# Altium schematic symbol library Vishay Draloric Ceramic Disc Capacitor.SchLib: 519 symbols (part 1 of 8)
Pins are listed as number, name and electrical type; pins without a type are passive.

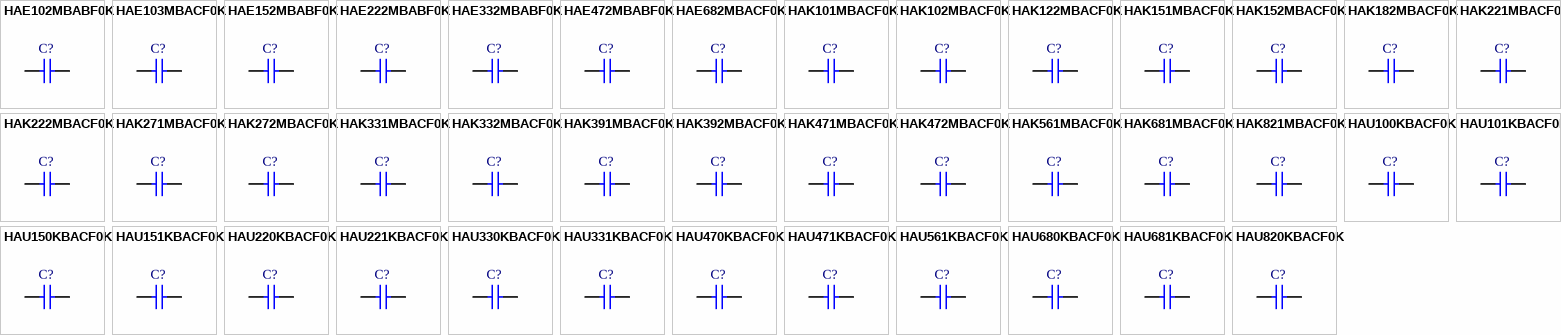
[diagram p0: symbols HAE102MBABF0K to HAU820KBACF0K]

## HAE102MBABF0K
designator C?
Ceramic High Voltage Disc Capacitor, Class 2: 1000pF 1kV K 6000; Note: See Datasheet for other lead types; Value: 1nF; Published: 17-Dec-2003; DatasheetDocument: 11-Dec-2001; PackageDocument: 2-Aug-2001; PackageReference: CAPRD5-7X3; Publisher: Altium Limited; ComponentLink1Description: Manufacturer Link; ComponentLink1URL: http://www.vishay.com/; ComponentLink2Description: Datasheet; ComponentLink2URL: http://www.vishay.com/docs/22161/h.pdf
footprint CAPRD5-7X3 (Capacitor, Ceramic, Thru-Hole, Disc; Body 7 x 3 mm (LxW max) Pin Spacing 5 mm (typ))
simulation model CAP (Capacitor)
signal-integrity model Cap
pins: 1, 2

## HAE103MBACF0K
designator C?
Ceramic High Voltage Disc Capacitor, Class 2: 10nF 1kV K 6000; Note: See Datasheet for other lead types; Published: 17-Dec-2003; DatasheetDocument: 11-Dec-2001; PackageDocument: 2-Aug-2001; PackageReference: CAPRD7.5-15X3A; Publisher: Altium Limited; ComponentLink1Description: Manufacturer Link; ComponentLink1URL: http://www.vishay.com/; ComponentLink2Description: Datasheet; ComponentLink2URL: http://www.vishay.com/docs/22161/h.pdf; Value: 10nF
footprint CAPRD7.5-15X3A (Capacitor, Ceramic, Thru-Hole, Disc; Body 15 x 3 mm (LxW max) Pin Spacing 7.5 mm (typ))
simulation model CAP (Capacitor)
signal-integrity model Cap
pins: 1, 2

## HAE152MBABF0K
designator C?
Ceramic High Voltage Disc Capacitor, Class 2: 1500pF 1kV K 6000; Note: See Datasheet for other lead types; Value: 1.5nF; Published: 17-Dec-2003; DatasheetDocument: 11-Dec-2001; PackageDocument: 2-Aug-2001; PackageReference: CAPRD5-9X3; Publisher: Altium Limited; ComponentLink1Description: Manufacturer Link; ComponentLink1URL: http://www.vishay.com/; ComponentLink2Description: Datasheet; ComponentLink2URL: http://www.vishay.com/docs/22161/h.pdf
footprint CAPRD5-9X3 (Capacitor, Ceramic, Thru-Hole, Disc; Body 9 x 3 mm (LxW max) Pin Spacing 5 mm (typ))
simulation model CAP (Capacitor)
signal-integrity model Cap
pins: 1, 2

## HAE222MBABF0K
designator C?
Ceramic High Voltage Disc Capacitor, Class 2: 2200pF 1kV K 6000; Note: See Datasheet for other lead types; Value: 2.2nF; Published: 17-Dec-2003; DatasheetDocument: 11-Dec-2001; PackageDocument: 2-Aug-2001; PackageReference: CAPRD5-9X3; Publisher: Altium Limited; ComponentLink1Description: Manufacturer Link; ComponentLink1URL: http://www.vishay.com/; ComponentLink2Description: Datasheet; ComponentLink2URL: http://www.vishay.com/docs/22161/h.pdf
footprint CAPRD5-9X3 (Capacitor, Ceramic, Thru-Hole, Disc; Body 9 x 3 mm (LxW max) Pin Spacing 5 mm (typ))
simulation model CAP (Capacitor)
signal-integrity model Cap
pins: 1, 2

## HAE332MBABF0K
designator C?
Ceramic High Voltage Disc Capacitor, Class 2: 3300pF 1kV K 6000; Note: See Datasheet for other lead types; Value: 3.3nF; Published: 17-Dec-2003; DatasheetDocument: 11-Dec-2001; PackageDocument: 2-Aug-2001; PackageReference: CAPRD5-11X3; Publisher: Altium Limited; ComponentLink1Description: Manufacturer Link; ComponentLink1URL: http://www.vishay.com/; ComponentLink2Description: Datasheet; ComponentLink2URL: http://www.vishay.com/docs/22161/h.pdf
footprint CAPRD5-11X3 (Capacitor, Ceramic, Thru-Hole, Disc; Body 11 x 3 mm (LxW max) Pin Spacing 5 mm (typ))
simulation model CAP (Capacitor)
signal-integrity model Cap
pins: 1, 2

## HAE472MBABF0K
designator C?
Ceramic High Voltage Disc Capacitor, Class 2: 4700pF 1kV K 6000; Note: See Datasheet for other lead types; Value: 4.7nF; Published: 17-Dec-2003; DatasheetDocument: 11-Dec-2001; PackageDocument: 2-Aug-2001; PackageReference: CAPRD5-11X3; Publisher: Altium Limited; ComponentLink1Description: Manufacturer Link; ComponentLink1URL: http://www.vishay.com/; ComponentLink2Description: Datasheet; ComponentLink2URL: http://www.vishay.com/docs/22161/h.pdf
footprint CAPRD5-11X3 (Capacitor, Ceramic, Thru-Hole, Disc; Body 11 x 3 mm (LxW max) Pin Spacing 5 mm (typ))
simulation model CAP (Capacitor)
signal-integrity model Cap
pins: 1, 2

## HAE682MBACF0K
designator C?
Ceramic High Voltage Disc Capacitor, Class 2: 6800pF 1kV K 6000; Note: See Datasheet for other lead types; Value: 6.8nF; Published: 17-Dec-2003; DatasheetDocument: 11-Dec-2001; PackageDocument: 2-Aug-2001; PackageReference: CAPRD7.5-13X3; Publisher: Altium Limited; ComponentLink1Description: Manufacturer Link; ComponentLink1URL: http://www.vishay.com/; ComponentLink2Description: Datasheet; ComponentLink2URL: http://www.vishay.com/docs/22161/h.pdf
footprint CAPRD7.5-13X3 (Capacitor, Ceramic, Thru-Hole, Disc; Body 13 x 3 mm (LxW max) Pin Spacing 7.5 mm (typ))
simulation model CAP (Capacitor)
signal-integrity model Cap
pins: 1, 2

## HAK101MBACF0K
designator C?
Ceramic Pulse Disc Capacitor, Class 2: 100pF 1kV K 1500; Note: See Datasheet for other lead types & tolerances; Published: 17-Dec-2003; DatasheetDocument: 6-Sep-2001; PackageDocument: 2-Aug-2001; PackageReference: CAPRD7.5-7X5A; Publisher: Altium Limited; ComponentLink1Description: Manufacturer Link; ComponentLink1URL: http://www.vishay.com/; ComponentLink2Description: Datasheet; ComponentLink2URL: http://www.vishay.com/docs/22164/hk.pdf; Value: 100pF
footprint CAPRD7.5-7X5A (Capacitor, Ceramic, Thru-Hole, Disc; Body 7 x 5 mm (LxW max) Pin Spacing 7.5 mm (typ))
simulation model CAP (Capacitor)
signal-integrity model Cap
pins: 1, 2

## HAK102MBACF0K
designator C?
Ceramic Pulse Disc Capacitor, Class 2: 1000pF 1kV K 1500; Note: See Datasheet for other lead types & tolerances; Value: 1nF; Published: 17-Dec-2003; DatasheetDocument: 6-Sep-2001; PackageDocument: 2-Aug-2001; PackageReference: CAPRD7.5-9X5C; Publisher: Altium Limited; ComponentLink1Description: Manufacturer Link; ComponentLink1URL: http://www.vishay.com/; ComponentLink2Description: Datasheet; ComponentLink2URL: http://www.vishay.com/docs/22164/hk.pdf
footprint CAPRD7.5-9X5C (Capacitor, Ceramic, Thru-Hole, Disc; Body 9 x 5 mm (LxW max) Pin Spacing 7.5 mm (typ))
simulation model CAP (Capacitor)
signal-integrity model Cap
pins: 1, 2

## HAK122MBACF0K
designator C?
Ceramic Pulse Disc Capacitor, Class 2: 1200pF 1kV K 1500; Note: See Datasheet for other lead types & tolerances; Value: 1.2nF; Published: 17-Dec-2003; DatasheetDocument: 6-Sep-2001; PackageDocument: 2-Aug-2001; PackageReference: CAPRD7.5-10X5; Publisher: Altium Limited; ComponentLink1Description: Manufacturer Link; ComponentLink1URL: http://www.vishay.com/; ComponentLink2Description: Datasheet; ComponentLink2URL: http://www.vishay.com/docs/22164/hk.pdf
footprint CAPRD7.5-10X5 (Capacitor, Ceramic, Thru-Hole, Disc; Body 10 x 5 mm (LxW max) Pin Spacing 7.5 mm (typ))
simulation model CAP (Capacitor)
signal-integrity model Cap
pins: 1, 2

## HAK151MBACF0K
designator C?
Ceramic Pulse Disc Capacitor, Class 2: 150pF 1kV K 1500; Note: See Datasheet for other lead types & tolerances; Published: 17-Dec-2003; DatasheetDocument: 6-Sep-2001; PackageDocument: 2-Aug-2001; PackageReference: CAPRD7.5-7X5A; Publisher: Altium Limited; ComponentLink1Description: Manufacturer Link; ComponentLink1URL: http://www.vishay.com/; ComponentLink2Description: Datasheet; ComponentLink2URL: http://www.vishay.com/docs/22164/hk.pdf; Value: 150pF
footprint CAPRD7.5-7X5A (Capacitor, Ceramic, Thru-Hole, Disc; Body 7 x 5 mm (LxW max) Pin Spacing 7.5 mm (typ))
simulation model CAP (Capacitor)
signal-integrity model Cap
pins: 1, 2

## HAK152MBACF0K
designator C?
Ceramic Pulse Disc Capacitor, Class 2: 1500pF 1kV K 1500; Note: See Datasheet for other lead types & tolerances; Value: 1.5nF; Published: 17-Dec-2003; DatasheetDocument: 6-Sep-2001; PackageDocument: 2-Aug-2001; PackageReference: CAPRD7.5-11X5; Publisher: Altium Limited; ComponentLink1Description: Manufacturer Link; ComponentLink1URL: http://www.vishay.com/; ComponentLink2Description: Datasheet; ComponentLink2URL: http://www.vishay.com/docs/22164/hk.pdf
footprint CAPRD7.5-11X5 (Capacitor, Ceramic, Thru-Hole, Disc; Body 11 x 5 mm (LxW max) Pin Spacing 7.5 mm (typ))
simulation model CAP (Capacitor)
signal-integrity model Cap
pins: 1, 2

## HAK182MBACF0K
designator C?
Ceramic Pulse Disc Capacitor, Class 2: 1800pF 1kV K 1500; Note: See Datasheet for other lead types & tolerances; Value: 1.8nF; Published: 17-Dec-2003; DatasheetDocument: 6-Sep-2001; PackageDocument: 2-Aug-2001; PackageReference: CAPRD7.5-12X5A; Publisher: Altium Limited; ComponentLink1Description: Manufacturer Link; ComponentLink1URL: http://www.vishay.com/; ComponentLink2Description: Datasheet; ComponentLink2URL: http://www.vishay.com/docs/22164/hk.pdf
footprint CAPRD7.5-12X5A (Capacitor, Ceramic, Thru-Hole, Disc; Body 12 x 5 mm (LxW max) Pin Spacing 7.5 mm (typ))
simulation model CAP (Capacitor)
signal-integrity model Cap
pins: 1, 2

## HAK221MBACF0K
designator C?
Ceramic Pulse Disc Capacitor, Class 2: 220pF 1kV K 1500; Note: See Datasheet for other lead types & tolerances; Published: 17-Dec-2003; DatasheetDocument: 6-Sep-2001; PackageDocument: 2-Aug-2001; PackageReference: CAPRD7.5-7X5A; Publisher: Altium Limited; ComponentLink1Description: Manufacturer Link; ComponentLink1URL: http://www.vishay.com/; ComponentLink2Description: Datasheet; ComponentLink2URL: http://www.vishay.com/docs/22164/hk.pdf; Value: 220pF
footprint CAPRD7.5-7X5A (Capacitor, Ceramic, Thru-Hole, Disc; Body 7 x 5 mm (LxW max) Pin Spacing 7.5 mm (typ))
simulation model CAP (Capacitor)
signal-integrity model Cap
pins: 1, 2

## HAK222MBACF0K
designator C?
Ceramic Pulse Disc Capacitor, Class 2: 2200pF 1kV K 1500; Note: See Datasheet for other lead types & tolerances; Value: 2.2nF; Published: 17-Dec-2003; DatasheetDocument: 6-Sep-2001; PackageDocument: 2-Aug-2001; PackageReference: CAPRD7.5-12X5A; Publisher: Altium Limited; ComponentLink1Description: Manufacturer Link; ComponentLink1URL: http://www.vishay.com/; ComponentLink2Description: Datasheet; ComponentLink2URL: http://www.vishay.com/docs/22164/hk.pdf
footprint CAPRD7.5-12X5A (Capacitor, Ceramic, Thru-Hole, Disc; Body 12 x 5 mm (LxW max) Pin Spacing 7.5 mm (typ))
simulation model CAP (Capacitor)
signal-integrity model Cap
pins: 1, 2

## HAK271MBACF0K
designator C?
Ceramic Pulse Disc Capacitor, Class 2: 270pF 1kV K 1500; Note: See Datasheet for other lead types & tolerances; Published: 17-Dec-2003; DatasheetDocument: 6-Sep-2001; PackageDocument: 2-Aug-2001; PackageReference: CAPRD7.5-7X5A; Publisher: Altium Limited; ComponentLink1Description: Manufacturer Link; ComponentLink1URL: http://www.vishay.com/; ComponentLink2Description: Datasheet; ComponentLink2URL: http://www.vishay.com/docs/22164/hk.pdf; Value: 270pF
footprint CAPRD7.5-7X5A (Capacitor, Ceramic, Thru-Hole, Disc; Body 7 x 5 mm (LxW max) Pin Spacing 7.5 mm (typ))
simulation model CAP (Capacitor)
signal-integrity model Cap
pins: 1, 2

## HAK272MBACF0K
designator C?
Ceramic Pulse Disc Capacitor, Class 2: 2700pF 1kV K 1500; Note: See Datasheet for other lead types & tolerances; Value: 2.7nF; Published: 17-Dec-2003; DatasheetDocument: 6-Sep-2001; PackageDocument: 2-Aug-2001; PackageReference: CAPRD7.5-14.5X5A; Publisher: Altium Limited; ComponentLink1Description: Manufacturer Link; ComponentLink1URL: http://www.vishay.com/; ComponentLink2Description: Datasheet; ComponentLink2URL: http://www.vishay.com/docs/22164/hk.pdf
footprint CAPRD7.5-14.5X5A (Capacitor, Ceramic, Thru-Hole, Disc; Body 14.5 x 5 mm (LxW max) Pin Spacing 7.5 mm (typ))
simulation model CAP (Capacitor)
signal-integrity model Cap
pins: 1, 2

## HAK331MBACF0K
designator C?
Ceramic Pulse Disc Capacitor, Class 2: 330pF 1kV K 1500; Note: See Datasheet for other lead types & tolerances; Published: 17-Dec-2003; DatasheetDocument: 6-Sep-2001; PackageDocument: 2-Aug-2001; PackageReference: CAPRD7.5-7X5A; Publisher: Altium Limited; ComponentLink1Description: Manufacturer Link; ComponentLink1URL: http://www.vishay.com/; ComponentLink2Description: Datasheet; ComponentLink2URL: http://www.vishay.com/docs/22164/hk.pdf; Value: 330pF
footprint CAPRD7.5-7X5A (Capacitor, Ceramic, Thru-Hole, Disc; Body 7 x 5 mm (LxW max) Pin Spacing 7.5 mm (typ))
simulation model CAP (Capacitor)
signal-integrity model Cap
pins: 1, 2

## HAK332MBACF0K
designator C?
Ceramic Pulse Disc Capacitor, Class 2: 3300pF 1kV K 1500; Note: See Datasheet for other lead types & tolerances; Value: 3.3nF; Published: 17-Dec-2003; DatasheetDocument: 6-Sep-2001; PackageDocument: 2-Aug-2001; PackageReference: CAPRD7.5-14.5X5A; Publisher: Altium Limited; ComponentLink1Description: Manufacturer Link; ComponentLink1URL: http://www.vishay.com/; ComponentLink2Description: Datasheet; ComponentLink2URL: http://www.vishay.com/docs/22164/hk.pdf
footprint CAPRD7.5-14.5X5A (Capacitor, Ceramic, Thru-Hole, Disc; Body 14.5 x 5 mm (LxW max) Pin Spacing 7.5 mm (typ))
simulation model CAP (Capacitor)
signal-integrity model Cap
pins: 1, 2

## HAK391MBACF0K
designator C?
Ceramic Pulse Disc Capacitor, Class 2: 390pF 1kV K 1500; Note: See Datasheet for other lead types & tolerances; Published: 17-Dec-2003; DatasheetDocument: 6-Sep-2001; PackageDocument: 2-Aug-2001; PackageReference: CAPRD7.5-7X5A; Publisher: Altium Limited; ComponentLink1Description: Manufacturer Link; ComponentLink1URL: http://www.vishay.com/; ComponentLink2Description: Datasheet; ComponentLink2URL: http://www.vishay.com/docs/22164/hk.pdf; Value: 390pF
footprint CAPRD7.5-7X5A (Capacitor, Ceramic, Thru-Hole, Disc; Body 7 x 5 mm (LxW max) Pin Spacing 7.5 mm (typ))
simulation model CAP (Capacitor)
signal-integrity model Cap
pins: 1, 2

## HAK392MBACF0K
designator C?
Ceramic Pulse Disc Capacitor, Class 2: 3900pF 1kV K 1500; Note: See Datasheet for other lead types & tolerances; Value: 3.9nF; Published: 17-Dec-2003; DatasheetDocument: 6-Sep-2001; PackageDocument: 2-Aug-2001; PackageReference: CAPRD7.5-15.5X5; Publisher: Altium Limited; ComponentLink1Description: Manufacturer Link; ComponentLink1URL: http://www.vishay.com/; ComponentLink2Description: Datasheet; ComponentLink2URL: http://www.vishay.com/docs/22164/hk.pdf
footprint CAPRD7.5-15.5X5 (Capacitor, Ceramic, Thru-Hole, Disc; Body 15.5 x 5 mm (LxW max) Pin Spacing 7.5 mm (typ))
simulation model CAP (Capacitor)
signal-integrity model Cap
pins: 1, 2

## HAK471MBACF0K
designator C?
Ceramic Pulse Disc Capacitor, Class 2: 470pF 1kV K 1500; Note: See Datasheet for other lead types & tolerances; Published: 17-Dec-2003; DatasheetDocument: 6-Sep-2001; PackageDocument: 2-Aug-2001; PackageReference: CAPRD7.5-7X5A; Publisher: Altium Limited; ComponentLink1Description: Manufacturer Link; ComponentLink1URL: http://www.vishay.com/; ComponentLink2Description: Datasheet; ComponentLink2URL: http://www.vishay.com/docs/22164/hk.pdf; Value: 470pF
footprint CAPRD7.5-7X5A (Capacitor, Ceramic, Thru-Hole, Disc; Body 7 x 5 mm (LxW max) Pin Spacing 7.5 mm (typ))
simulation model CAP (Capacitor)
signal-integrity model Cap
pins: 1, 2

## HAK472MBACF0K
designator C?
Ceramic Pulse Disc Capacitor, Class 2: 4700pF 1kV K 1500; Note: See Datasheet for other lead types & tolerances; Value: 4.7nF; Published: 17-Dec-2003; DatasheetDocument: 6-Sep-2001; PackageDocument: 2-Aug-2001; PackageReference: CAPRD7.5-16.5X5; Publisher: Altium Limited; ComponentLink1Description: Manufacturer Link; ComponentLink1URL: http://www.vishay.com/; ComponentLink2Description: Datasheet; ComponentLink2URL: http://www.vishay.com/docs/22164/hk.pdf
footprint CAPRD7.5-16.5X5 (Capacitor, Ceramic, Thru-Hole, Disc; Body 16.5 x 5 mm (LxW max) Pin Spacing 7.5 mm (typ))
simulation model CAP (Capacitor)
signal-integrity model Cap
pins: 1, 2

## HAK561MBACF0K
designator C?
Ceramic Pulse Disc Capacitor, Class 2: 560pF 1kV K 1500; Note: See Datasheet for other lead types & tolerances; Published: 17-Dec-2003; DatasheetDocument: 6-Sep-2001; PackageDocument: 2-Aug-2001; PackageReference: CAPRD7.5-8X5; Publisher: Altium Limited; ComponentLink1Description: Manufacturer Link; ComponentLink1URL: http://www.vishay.com/; ComponentLink2Description: Datasheet; ComponentLink2URL: http://www.vishay.com/docs/22164/hk.pdf; Value: 560pF
footprint CAPRD7.5-8X5 (Capacitor, Ceramic, Thru-Hole, Disc; Body 8 x 5 mm (LxW max) Pin Spacing 7.5 mm (typ))
simulation model CAP (Capacitor)
signal-integrity model Cap
pins: 1, 2

## HAK681MBACF0K
designator C?
Ceramic Pulse Disc Capacitor, Class 2: 680pF 1kV K 1500; Note: See Datasheet for other lead types & tolerances; Published: 17-Dec-2003; DatasheetDocument: 6-Sep-2001; PackageDocument: 2-Aug-2001; PackageReference: CAPRD7.5-8X5; Publisher: Altium Limited; ComponentLink1Description: Manufacturer Link; ComponentLink1URL: http://www.vishay.com/; ComponentLink2Description: Datasheet; ComponentLink2URL: http://www.vishay.com/docs/22164/hk.pdf; Value: 680pF
footprint CAPRD7.5-8X5 (Capacitor, Ceramic, Thru-Hole, Disc; Body 8 x 5 mm (LxW max) Pin Spacing 7.5 mm (typ))
simulation model CAP (Capacitor)
signal-integrity model Cap
pins: 1, 2

## HAK821MBACF0K
designator C?
Ceramic Pulse Disc Capacitor, Class 2: 820pF 1kV K 1500; Note: See Datasheet for other lead types & tolerances; Published: 17-Dec-2003; DatasheetDocument: 6-Sep-2001; PackageDocument: 2-Aug-2001; PackageReference: CAPRD7.5-9X5C; Publisher: Altium Limited; ComponentLink1Description: Manufacturer Link; ComponentLink1URL: http://www.vishay.com/; ComponentLink2Description: Datasheet; ComponentLink2URL: http://www.vishay.com/docs/22164/hk.pdf; Value: 820pF
footprint CAPRD7.5-9X5C (Capacitor, Ceramic, Thru-Hole, Disc; Body 9 x 5 mm (LxW max) Pin Spacing 7.5 mm (typ))
simulation model CAP (Capacitor)
signal-integrity model Cap
pins: 1, 2

## HAU100KBACF0K
designator C?
Ceramic High Voltage Disc Capacitor, Class 1: 10pF, 1kV, N 750; Note: See Datasheet for other lead types; Published: 17-Dec-2003; DatasheetDocument: 2-Aug-2001; PackageDocument: 2-Aug-2001; PackageReference: CAPRD7.5-7X3; Publisher: Altium Limited; ComponentLink1Description: Manufacturer Link; ComponentLink1URL: http://www.vishay.com/; ComponentLink2Description: Datasheet; ComponentLink2URL: http://www.vishay.com/docs/22114/hu.pdf; Value: 10pF
footprint CAPRD7.5-7X3 (Capacitor, Ceramic, Thru-Hole, Disc; Body 7 x 3 mm (LxW max) Pin Spacing 7.5 mm (typ))
simulation model CAP (Capacitor)
signal-integrity model Cap
pins: 1, 2

## HAU101KBACF0K
designator C?
Ceramic High Voltage Disc Capacitor, Class 1: 100pF, 1kV, N 750; Note: See Datasheet for other lead types; Published: 17-Dec-2003; DatasheetDocument: 2-Aug-2001; PackageDocument: 2-Aug-2001; PackageReference: CAPRD7.5-8X3; Publisher: Altium Limited; ComponentLink1Description: Manufacturer Link; ComponentLink1URL: http://www.vishay.com/; ComponentLink2Description: Datasheet; ComponentLink2URL: http://www.vishay.com/docs/22114/hu.pdf; Value: 100pF
footprint CAPRD7.5-8X3 (Capacitor, Ceramic, Thru-Hole, Disc; Body 8 x 3 mm (LxW max) Pin Spacing 7.5 mm (typ))
simulation model CAP (Capacitor)
signal-integrity model Cap
pins: 1, 2

## HAU150KBACF0K
designator C?
Ceramic High Voltage Disc Capacitor, Class 1: 15pF, 1kV, N 750; Note: See Datasheet for other lead types; Published: 17-Dec-2003; DatasheetDocument: 2-Aug-2001; PackageDocument: 2-Aug-2001; PackageReference: CAPRD7.5-7X3; Publisher: Altium Limited; ComponentLink1Description: Manufacturer Link; ComponentLink1URL: http://www.vishay.com/; ComponentLink2Description: Datasheet; ComponentLink2URL: http://www.vishay.com/docs/22114/hu.pdf; Value: 15pF
footprint CAPRD7.5-7X3 (Capacitor, Ceramic, Thru-Hole, Disc; Body 7 x 3 mm (LxW max) Pin Spacing 7.5 mm (typ))
simulation model CAP (Capacitor)
signal-integrity model Cap
pins: 1, 2

## HAU151KBACF0K
designator C?
Ceramic High Voltage Disc Capacitor, Class 1: 150pF, 1kV, N 750; Note: See Datasheet for other lead types; Published: 17-Dec-2003; DatasheetDocument: 2-Aug-2001; PackageDocument: 2-Aug-2001; PackageReference: CAPRD7.5-10X3.5; Publisher: Altium Limited; ComponentLink1Description: Manufacturer Link; ComponentLink1URL: http://www.vishay.com/; ComponentLink2Description: Datasheet; ComponentLink2URL: http://www.vishay.com/docs/22114/hu.pdf; Value: 150pF
footprint CAPRD7.5-10X3.5 (Capacitor, Ceramic, Thru-Hole, Disc; Body 10 x 3.5 mm (LxW max) Pin Spacing 7.5 mm (typ))
simulation model CAP (Capacitor)
signal-integrity model Cap
pins: 1, 2

## HAU220KBACF0K
designator C?
Ceramic High Voltage Disc Capacitor, Class 1: 22pF, 1kV, N 750; Note: See Datasheet for other lead types; Published: 17-Dec-2003; DatasheetDocument: 2-Aug-2001; PackageDocument: 2-Aug-2001; PackageReference: CAPRD7.5-7X3; Publisher: Altium Limited; ComponentLink1Description: Manufacturer Link; ComponentLink1URL: http://www.vishay.com/; ComponentLink2Description: Datasheet; ComponentLink2URL: http://www.vishay.com/docs/22114/hu.pdf; Value: 22pF
footprint CAPRD7.5-7X3 (Capacitor, Ceramic, Thru-Hole, Disc; Body 7 x 3 mm (LxW max) Pin Spacing 7.5 mm (typ))
simulation model CAP (Capacitor)
signal-integrity model Cap
pins: 1, 2

## HAU221KBACF0K
designator C?
Ceramic High Voltage Disc Capacitor, Class 1: 220pF, 1kV, N 750; Note: See Datasheet for other lead types; Published: 17-Dec-2003; DatasheetDocument: 2-Aug-2001; PackageDocument: 2-Aug-2001; PackageReference: CAPRD7.5-11X3.5A; Publisher: Altium Limited; ComponentLink1Description: Manufacturer Link; ComponentLink1URL: http://www.vishay.com/; ComponentLink2Description: Datasheet; ComponentLink2URL: http://www.vishay.com/docs/22114/hu.pdf; Value: 220pF
footprint CAPRD7.5-11X3.5A (Capacitor, Ceramic, Thru-Hole, Disc; Body 11 x 3.5 mm (LxW max) Pin Spacing 7.5 mm (typ))
simulation model CAP (Capacitor)
signal-integrity model Cap
pins: 1, 2

## HAU330KBACF0K
designator C?
Ceramic High Voltage Disc Capacitor, Class 1: 33pF, 1kV, N 750; Note: See Datasheet for other lead types; Published: 17-Dec-2003; DatasheetDocument: 2-Aug-2001; PackageDocument: 2-Aug-2001; PackageReference: CAPRD7.5-8X3; Publisher: Altium Limited; ComponentLink1Description: Manufacturer Link; ComponentLink1URL: http://www.vishay.com/; ComponentLink2Description: Datasheet; ComponentLink2URL: http://www.vishay.com/docs/22114/hu.pdf; Value: 33pF
footprint CAPRD7.5-8X3 (Capacitor, Ceramic, Thru-Hole, Disc; Body 8 x 3 mm (LxW max) Pin Spacing 7.5 mm (typ))
simulation model CAP (Capacitor)
signal-integrity model Cap
pins: 1, 2

## HAU331KBACF0K
designator C?
Ceramic High Voltage Disc Capacitor, Class 1: 330pF, 1kV, N 750; Note: See Datasheet for other lead types; Published: 17-Dec-2003; DatasheetDocument: 2-Aug-2001; PackageDocument: 2-Aug-2001; PackageReference: CAPRD7.5-12.5X3.5; Publisher: Altium Limited; ComponentLink1Description: Manufacturer Link; ComponentLink1URL: http://www.vishay.com/; ComponentLink2Description: Datasheet; ComponentLink2URL: http://www.vishay.com/docs/22114/hu.pdf; Value: 330pF
footprint CAPRD7.5-12.5X3.5 (Capacitor, Ceramic, Thru-Hole, Disc; Body 12.5 x 3.5 mm (LxW max) Pin Spacing 7.5 mm (typ))
simulation model CAP (Capacitor)
signal-integrity model Cap
pins: 1, 2

## HAU470KBACF0K
designator C?
Ceramic High Voltage Disc Capacitor, Class 1: 47pF, 1kV, N 750; Note: See Datasheet for other lead types; Published: 17-Dec-2003; DatasheetDocument: 2-Aug-2001; PackageDocument: 2-Aug-2001; PackageReference: CAPRD7.5-8X3; Publisher: Altium Limited; ComponentLink1Description: Manufacturer Link; ComponentLink1URL: http://www.vishay.com/; ComponentLink2Description: Datasheet; ComponentLink2URL: http://www.vishay.com/docs/22114/hu.pdf; Value: 47pF
footprint CAPRD7.5-8X3 (Capacitor, Ceramic, Thru-Hole, Disc; Body 8 x 3 mm (LxW max) Pin Spacing 7.5 mm (typ))
simulation model CAP (Capacitor)
signal-integrity model Cap
pins: 1, 2

## HAU471KBACF0K
designator C?
Ceramic High Voltage Disc Capacitor, Class 1: 470pF, 1kV, N 750; Note: See Datasheet for other lead types; Published: 17-Dec-2003; DatasheetDocument: 2-Aug-2001; PackageDocument: 2-Aug-2001; PackageReference: CAPRD7.5-14.5X3.5; Publisher: Altium Limited; ComponentLink1Description: Manufacturer Link; ComponentLink1URL: http://www.vishay.com/; ComponentLink2Description: Datasheet; ComponentLink2URL: http://www.vishay.com/docs/22114/hu.pdf; Value: 470pF
footprint CAPRD7.5-14.5X3.5 (Capacitor, Ceramic, Thru-Hole, Disc; Body 14.5 x 3.5 mm (LxW max) Pin Spacing 7.5 mm (typ))
simulation model CAP (Capacitor)
signal-integrity model Cap
pins: 1, 2

## HAU561KBACF0K
designator C?
Ceramic High Voltage Disc Capacitor, Class 1: 560pF, 1kV, N 750; Note: See Datasheet for other lead types; Published: 17-Dec-2003; DatasheetDocument: 2-Aug-2001; PackageDocument: 2-Aug-2001; PackageReference: CAPRD7.5-16.5X3.5; Publisher: Altium Limited; ComponentLink1Description: Manufacturer Link; ComponentLink1URL: http://www.vishay.com/; ComponentLink2Description: Datasheet; ComponentLink2URL: http://www.vishay.com/docs/22114/hu.pdf; Value: 560pF
footprint CAPRD7.5-16.5X3.5 (Capacitor, Ceramic, Thru-Hole, Disc; Body 16.5 x 3.5 mm (LxW max) Pin Spacing 7.5 mm (typ))
simulation model CAP (Capacitor)
signal-integrity model Cap
pins: 1, 2

## HAU680KBACF0K
designator C?
Ceramic High Voltage Disc Capacitor, Class 1: 68pF, 1kV, N 750; Note: See Datasheet for other lead types; Published: 17-Dec-2003; DatasheetDocument: 2-Aug-2001; PackageDocument: 2-Aug-2001; PackageReference: CAPRD7.5-8X3; Publisher: Altium Limited; ComponentLink1Description: Manufacturer Link; ComponentLink1URL: http://www.vishay.com/; ComponentLink2Description: Datasheet; ComponentLink2URL: http://www.vishay.com/docs/22114/hu.pdf; Value: 68pF
footprint CAPRD7.5-8X3 (Capacitor, Ceramic, Thru-Hole, Disc; Body 8 x 3 mm (LxW max) Pin Spacing 7.5 mm (typ))
simulation model CAP (Capacitor)
signal-integrity model Cap
pins: 1, 2

## HAU681KBACF0K
designator C?
Ceramic High Voltage Disc Capacitor, Class 1: 680pF, 1kV, N 750; Note: See Datasheet for other lead types; Published: 17-Dec-2003; DatasheetDocument: 2-Aug-2001; PackageDocument: 2-Aug-2001; PackageReference: CAPRD7.5-16.5X3.5; Publisher: Altium Limited; ComponentLink1Description: Manufacturer Link; ComponentLink1URL: http://www.vishay.com/; ComponentLink2Description: Datasheet; ComponentLink2URL: http://www.vishay.com/docs/22114/hu.pdf; Value: 680pF
footprint CAPRD7.5-16.5X3.5 (Capacitor, Ceramic, Thru-Hole, Disc; Body 16.5 x 3.5 mm (LxW max) Pin Spacing 7.5 mm (typ))
simulation model CAP (Capacitor)
signal-integrity model Cap
pins: 1, 2

## HAU820KBACF0K
designator C?
Ceramic High Voltage Disc Capacitor, Class 1: 82pF, 1kV, N 750; Note: See Datasheet for other lead types; Published: 17-Dec-2003; DatasheetDocument: 2-Aug-2001; PackageDocument: 2-Aug-2001; PackageReference: CAPRD7.5-8X3; Publisher: Altium Limited; ComponentLink1Description: Manufacturer Link; ComponentLink1URL: http://www.vishay.com/; ComponentLink2Description: Datasheet; ComponentLink2URL: http://www.vishay.com/docs/22114/hu.pdf; Value: 82pF
footprint CAPRD7.5-8X3 (Capacitor, Ceramic, Thru-Hole, Disc; Body 8 x 3 mm (LxW max) Pin Spacing 7.5 mm (typ))
simulation model CAP (Capacitor)
signal-integrity model Cap
pins: 1, 2

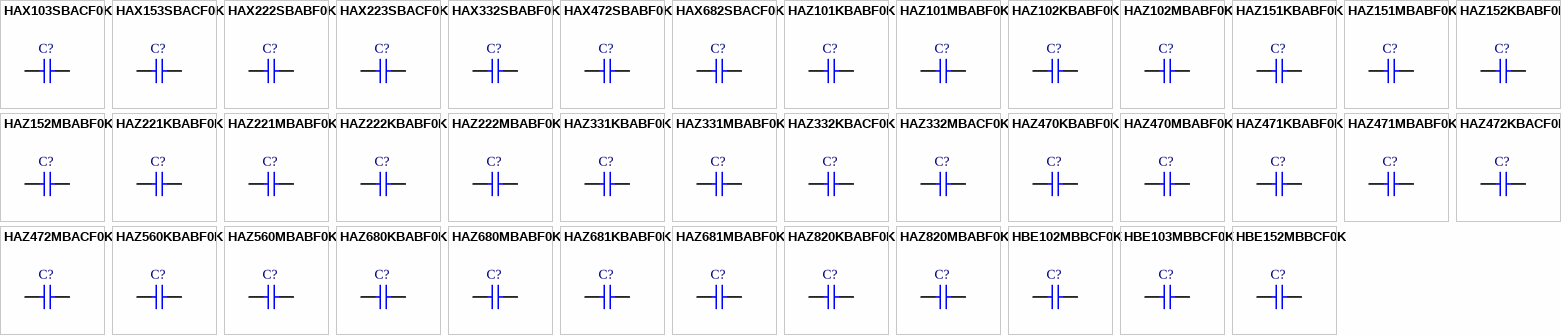
[diagram p1: symbols HAX103SBACF0K to HBE152MBBCF0K]

## HAX103SBACF0K
designator C?
Ceramic High Voltage Disc Capacitor, Class 2: 10nF 1kV K 10000; Note: See Datasheet for other lead types & tolerances; Published: 17-Dec-2003; DatasheetDocument: 11-Dec-2001; PackageDocument: 2-Aug-2001; PackageReference: CAPRD5-13X3; Publisher: Altium Limited; ComponentLink1Description: Manufacturer Link; ComponentLink1URL: http://www.vishay.com/; ComponentLink2Description: Datasheet; ComponentLink2URL: http://www.vishay.com/docs/22161/h.pdf; Value: 10nF
footprint CAPRD5-13X3 (Capacitor, Ceramic, Thru-Hole, Disc; Body 13 x 3 mm (LxW max) Pin Spacing 5 mm (typ))
simulation model CAP (Capacitor)
signal-integrity model Cap
pins: 1, 2

## HAX153SBACF0K
designator C?
Ceramic High Voltage Disc Capacitor, Class 2: 15nF 1kV K 10000; Note: See Datasheet for other lead types & tolerances; Published: 17-Dec-2003; DatasheetDocument: 11-Dec-2001; PackageDocument: 2-Aug-2001; PackageReference: CAPRD7.5-17X3; Publisher: Altium Limited; ComponentLink1Description: Manufacturer Link; ComponentLink1URL: http://www.vishay.com/; ComponentLink2Description: Datasheet; ComponentLink2URL: http://www.vishay.com/docs/22161/h.pdf; Value: 15nF
footprint CAPRD7.5-17X3 (Capacitor, Ceramic, Thru-Hole, Disc; Body 17 x 3 mm (LxW max) Pin Spacing 7.5 mm (typ))
simulation model CAP (Capacitor)
signal-integrity model Cap
pins: 1, 2

## HAX222SBABF0K
designator C?
Ceramic High Voltage Disc Capacitor, Class 2: 2200pF 1kV K 10000; Note: See Datasheet for other lead types & tolerances; Value: 2.2nF; Published: 17-Dec-2003; DatasheetDocument: 11-Dec-2001; PackageDocument: 2-Aug-2001; PackageReference: CAPRD5-7X3; Publisher: Altium Limited; ComponentLink1Description: Manufacturer Link; ComponentLink1URL: http://www.vishay.com/; ComponentLink2Description: Datasheet; ComponentLink2URL: http://www.vishay.com/docs/22161/h.pdf
footprint CAPRD5-7X3 (Capacitor, Ceramic, Thru-Hole, Disc; Body 7 x 3 mm (LxW max) Pin Spacing 5 mm (typ))
simulation model CAP (Capacitor)
signal-integrity model Cap
pins: 1, 2

## HAX223SBACF0K
designator C?
Ceramic High Voltage Disc Capacitor, Class 2: 22nF 1kV K 10000; Note: See Datasheet for other lead types & tolerances; Published: 17-Dec-2003; DatasheetDocument: 11-Dec-2001; PackageDocument: 2-Aug-2001; PackageReference: CAPRD7.5-18X3; Publisher: Altium Limited; ComponentLink1Description: Manufacturer Link; ComponentLink1URL: http://www.vishay.com/; ComponentLink2Description: Datasheet; ComponentLink2URL: http://www.vishay.com/docs/22161/h.pdf; Value: 22nF
footprint CAPRD7.5-18X3 (Capacitor, Ceramic, Thru-Hole, Disc; Body 18 x 3 mm (LxW max) Pin Spacing 7.5 mm (typ))
simulation model CAP (Capacitor)
signal-integrity model Cap
pins: 1, 2

## HAX332SBABF0K
designator C?
Ceramic High Voltage Disc Capacitor, Class 2: 3300pF 1kV K 10000; Note: See Datasheet for other lead types & tolerances; Value: 3.3nF; Published: 17-Dec-2003; DatasheetDocument: 11-Dec-2001; PackageDocument: 2-Aug-2001; PackageReference: CAPRD5-9X3; Publisher: Altium Limited; ComponentLink1Description: Manufacturer Link; ComponentLink1URL: http://www.vishay.com/; ComponentLink2Description: Datasheet; ComponentLink2URL: http://www.vishay.com/docs/22161/h.pdf
footprint CAPRD5-9X3 (Capacitor, Ceramic, Thru-Hole, Disc; Body 9 x 3 mm (LxW max) Pin Spacing 5 mm (typ))
simulation model CAP (Capacitor)
signal-integrity model Cap
pins: 1, 2

## HAX472SBABF0K
designator C?
Ceramic High Voltage Disc Capacitor, Class 2: 4700pF 1kV K 10000; Note: See Datasheet for other lead types & tolerances; Value: 4.7nF; Published: 17-Dec-2003; DatasheetDocument: 11-Dec-2001; PackageDocument: 2-Aug-2001; PackageReference: CAPRD5-9X3; Publisher: Altium Limited; ComponentLink1Description: Manufacturer Link; ComponentLink1URL: http://www.vishay.com/; ComponentLink2Description: Datasheet; ComponentLink2URL: http://www.vishay.com/docs/22161/h.pdf
footprint CAPRD5-9X3 (Capacitor, Ceramic, Thru-Hole, Disc; Body 9 x 3 mm (LxW max) Pin Spacing 5 mm (typ))
simulation model CAP (Capacitor)
signal-integrity model Cap
pins: 1, 2

## HAX682SBACF0K
designator C?
Ceramic High Voltage Disc Capacitor, Class 2: 6800pF 1kV K 10000; Note: See Datasheet for other lead types & tolerances; Value: 6.8nF; Published: 17-Dec-2003; DatasheetDocument: 11-Dec-2001; PackageDocument: 2-Aug-2001; PackageReference: CAPRD5-13X3; Publisher: Altium Limited; ComponentLink1Description: Manufacturer Link; ComponentLink1URL: http://www.vishay.com/; ComponentLink2Description: Datasheet; ComponentLink2URL: http://www.vishay.com/docs/22161/h.pdf
footprint CAPRD5-13X3 (Capacitor, Ceramic, Thru-Hole, Disc; Body 13 x 3 mm (LxW max) Pin Spacing 5 mm (typ))
simulation model CAP (Capacitor)
signal-integrity model Cap
pins: 1, 2

## HAZ101KBABF0K
designator C?
Ceramic High Voltage Disc Capacitor, Class 2: 100pF 1kV K 2000; Note: See Datasheet for other lead types & tolerances; Published: 17-Dec-2003; DatasheetDocument: 11-Dec-2001; PackageDocument: 2-Aug-2001; PackageReference: CAPRD5-7X3; Publisher: Altium Limited; ComponentLink1Description: Manufacturer Link; ComponentLink1URL: http://www.vishay.com/; ComponentLink2Description: Datasheet; ComponentLink2URL: http://www.vishay.com/docs/22161/h.pdf; Value: 100pF
footprint CAPRD5-7X3 (Capacitor, Ceramic, Thru-Hole, Disc; Body 7 x 3 mm (LxW max) Pin Spacing 5 mm (typ))
simulation model CAP (Capacitor)
signal-integrity model Cap
pins: 1, 2

## HAZ101MBABF0K
designator C?
Ceramic High Voltage Disc Capacitor, Class 2: 100pF 1kV K 2000; Note: See Datasheet for other lead types & tolerances; Published: 17-Dec-2003; DatasheetDocument: 11-Dec-2001; PackageDocument: 2-Aug-2001; PackageReference: CAPRD5-7X3; Publisher: Altium Limited; ComponentLink1Description: Manufacturer Link; ComponentLink1URL: http://www.vishay.com/; ComponentLink2Description: Datasheet; ComponentLink2URL: http://www.vishay.com/docs/22161/h.pdf; Value: 100pF
footprint CAPRD5-7X3 (Capacitor, Ceramic, Thru-Hole, Disc; Body 7 x 3 mm (LxW max) Pin Spacing 5 mm (typ))
simulation model CAP (Capacitor)
signal-integrity model Cap
pins: 1, 2

## HAZ102KBABF0K
designator C?
Ceramic High Voltage Disc Capacitor, Class 2: 1000pF 1kV K 2000; Note: See Datasheet for other lead types & tolerances; Value: 1nF; Published: 17-Dec-2003; DatasheetDocument: 11-Dec-2001; PackageDocument: 2-Aug-2001; PackageReference: CAPRD5-9X3; Publisher: Altium Limited; ComponentLink1Description: Manufacturer Link; ComponentLink1URL: http://www.vishay.com/; ComponentLink2Description: Datasheet; ComponentLink2URL: http://www.vishay.com/docs/22161/h.pdf
footprint CAPRD5-9X3 (Capacitor, Ceramic, Thru-Hole, Disc; Body 9 x 3 mm (LxW max) Pin Spacing 5 mm (typ))
simulation model CAP (Capacitor)
signal-integrity model Cap
pins: 1, 2

## HAZ102MBABF0K
designator C?
Ceramic High Voltage Disc Capacitor, Class 2: 1000pF 1kV K 2000; Note: See Datasheet for other lead types & tolerances; Value: 1nF; Published: 17-Dec-2003; DatasheetDocument: 11-Dec-2001; PackageDocument: 2-Aug-2001; PackageReference: CAPRD5-9X3; Publisher: Altium Limited; ComponentLink1Description: Manufacturer Link; ComponentLink1URL: http://www.vishay.com/; ComponentLink2Description: Datasheet; ComponentLink2URL: http://www.vishay.com/docs/22161/h.pdf
footprint CAPRD5-9X3 (Capacitor, Ceramic, Thru-Hole, Disc; Body 9 x 3 mm (LxW max) Pin Spacing 5 mm (typ))
simulation model CAP (Capacitor)
signal-integrity model Cap
pins: 1, 2

## HAZ151KBABF0K
designator C?
Ceramic High Voltage Disc Capacitor, Class 2: 150pF 1kV K 2000; Note: See Datasheet for other lead types & tolerances; Published: 17-Dec-2003; DatasheetDocument: 11-Dec-2001; PackageDocument: 2-Aug-2001; PackageReference: CAPRD5-7X3; Publisher: Altium Limited; ComponentLink1Description: Manufacturer Link; ComponentLink1URL: http://www.vishay.com/; ComponentLink2Description: Datasheet; ComponentLink2URL: http://www.vishay.com/docs/22161/h.pdf; Value: 150pF
footprint CAPRD5-7X3 (Capacitor, Ceramic, Thru-Hole, Disc; Body 7 x 3 mm (LxW max) Pin Spacing 5 mm (typ))
simulation model CAP (Capacitor)
signal-integrity model Cap
pins: 1, 2

## HAZ151MBABF0K
designator C?
Ceramic High Voltage Disc Capacitor, Class 2: 150pF 1kV K 2000; Note: See Datasheet for other lead types & tolerances; Published: 17-Dec-2003; DatasheetDocument: 11-Dec-2001; PackageDocument: 2-Aug-2001; PackageReference: CAPRD5-7X3; Publisher: Altium Limited; ComponentLink1Description: Manufacturer Link; ComponentLink1URL: http://www.vishay.com/; ComponentLink2Description: Datasheet; ComponentLink2URL: http://www.vishay.com/docs/22161/h.pdf; Value: 150pF
footprint CAPRD5-7X3 (Capacitor, Ceramic, Thru-Hole, Disc; Body 7 x 3 mm (LxW max) Pin Spacing 5 mm (typ))
simulation model CAP (Capacitor)
signal-integrity model Cap
pins: 1, 2

## HAZ152KBABF0K
designator C?
Ceramic High Voltage Disc Capacitor, Class 2: 1500pF 1kV K 2000; Note: See Datasheet for other lead types & tolerances; Value: 1.5nF; Published: 17-Dec-2003; DatasheetDocument: 11-Dec-2001; PackageDocument: 2-Aug-2001; PackageReference: CAPRD5-9X3; Publisher: Altium Limited; ComponentLink1Description: Manufacturer Link; ComponentLink1URL: http://www.vishay.com/; ComponentLink2Description: Datasheet; ComponentLink2URL: http://www.vishay.com/docs/22161/h.pdf
footprint CAPRD5-9X3 (Capacitor, Ceramic, Thru-Hole, Disc; Body 9 x 3 mm (LxW max) Pin Spacing 5 mm (typ))
simulation model CAP (Capacitor)
signal-integrity model Cap
pins: 1, 2

## HAZ152MBABF0K
designator C?
Ceramic High Voltage Disc Capacitor, Class 2: 1500pF 1kV K 2000; Note: See Datasheet for other lead types & tolerances; Value: 1.5nF; Published: 17-Dec-2003; DatasheetDocument: 11-Dec-2001; PackageDocument: 2-Aug-2001; PackageReference: CAPRD5-9X3; Publisher: Altium Limited; ComponentLink1Description: Manufacturer Link; ComponentLink1URL: http://www.vishay.com/; ComponentLink2Description: Datasheet; ComponentLink2URL: http://www.vishay.com/docs/22161/h.pdf
footprint CAPRD5-9X3 (Capacitor, Ceramic, Thru-Hole, Disc; Body 9 x 3 mm (LxW max) Pin Spacing 5 mm (typ))
simulation model CAP (Capacitor)
signal-integrity model Cap
pins: 1, 2

## HAZ221KBABF0K
designator C?
Ceramic High Voltage Disc Capacitor, Class 2: 220pF 1kV K 2000; Note: See Datasheet for other lead types & tolerances; Published: 17-Dec-2003; DatasheetDocument: 11-Dec-2001; PackageDocument: 2-Aug-2001; PackageReference: CAPRD5-7X3; Publisher: Altium Limited; ComponentLink1Description: Manufacturer Link; ComponentLink1URL: http://www.vishay.com/; ComponentLink2Description: Datasheet; ComponentLink2URL: http://www.vishay.com/docs/22161/h.pdf; Value: 220pF
footprint CAPRD5-7X3 (Capacitor, Ceramic, Thru-Hole, Disc; Body 7 x 3 mm (LxW max) Pin Spacing 5 mm (typ))
simulation model CAP (Capacitor)
signal-integrity model Cap
pins: 1, 2

## HAZ221MBABF0K
designator C?
Ceramic High Voltage Disc Capacitor, Class 2: 220pF 1kV K 2000; Note: See Datasheet for other lead types & tolerances; Published: 17-Dec-2003; DatasheetDocument: 11-Dec-2001; PackageDocument: 2-Aug-2001; PackageReference: CAPRD5-7X3; Publisher: Altium Limited; ComponentLink1Description: Manufacturer Link; ComponentLink1URL: http://www.vishay.com/; ComponentLink2Description: Datasheet; ComponentLink2URL: http://www.vishay.com/docs/22161/h.pdf; Value: 220pF
footprint CAPRD5-7X3 (Capacitor, Ceramic, Thru-Hole, Disc; Body 7 x 3 mm (LxW max) Pin Spacing 5 mm (typ))
simulation model CAP (Capacitor)
signal-integrity model Cap
pins: 1, 2

## HAZ222KBABF0K
designator C?
Ceramic High Voltage Disc Capacitor, Class 2: 2200pF 1kV K 2000; Note: See Datasheet for other lead types & tolerances; Value: 2.2nF; Published: 17-Dec-2003; DatasheetDocument: 11-Dec-2001; PackageDocument: 2-Aug-2001; PackageReference: CAPRD5-11X3; Publisher: Altium Limited; ComponentLink1Description: Manufacturer Link; ComponentLink1URL: http://www.vishay.com/; ComponentLink2Description: Datasheet; ComponentLink2URL: http://www.vishay.com/docs/22161/h.pdf
footprint CAPRD5-11X3 (Capacitor, Ceramic, Thru-Hole, Disc; Body 11 x 3 mm (LxW max) Pin Spacing 5 mm (typ))
simulation model CAP (Capacitor)
signal-integrity model Cap
pins: 1, 2

## HAZ222MBABF0K
designator C?
Ceramic High Voltage Disc Capacitor, Class 2: 2200pF 1kV K 2000; Note: See Datasheet for other lead types & tolerances; Value: 2.2nF; Published: 17-Dec-2003; DatasheetDocument: 11-Dec-2001; PackageDocument: 2-Aug-2001; PackageReference: CAPRD5-11X3; Publisher: Altium Limited; ComponentLink1Description: Manufacturer Link; ComponentLink1URL: http://www.vishay.com/; ComponentLink2Description: Datasheet; ComponentLink2URL: http://www.vishay.com/docs/22161/h.pdf
footprint CAPRD5-11X3 (Capacitor, Ceramic, Thru-Hole, Disc; Body 11 x 3 mm (LxW max) Pin Spacing 5 mm (typ))
simulation model CAP (Capacitor)
signal-integrity model Cap
pins: 1, 2

## HAZ331KBABF0K
designator C?
Ceramic High Voltage Disc Capacitor, Class 2: 330pF 1kV K 2000; Note: See Datasheet for other lead types & tolerances; Published: 17-Dec-2003; DatasheetDocument: 11-Dec-2001; PackageDocument: 2-Aug-2001; PackageReference: CAPRD5-7X3; Publisher: Altium Limited; ComponentLink1Description: Manufacturer Link; ComponentLink1URL: http://www.vishay.com/; ComponentLink2Description: Datasheet; ComponentLink2URL: http://www.vishay.com/docs/22161/h.pdf; Value: 330pF
footprint CAPRD5-7X3 (Capacitor, Ceramic, Thru-Hole, Disc; Body 7 x 3 mm (LxW max) Pin Spacing 5 mm (typ))
simulation model CAP (Capacitor)
signal-integrity model Cap
pins: 1, 2

## HAZ331MBABF0K
designator C?
Ceramic High Voltage Disc Capacitor, Class 2: 330pF 1kV K 2000; Note: See Datasheet for other lead types & tolerances; Published: 17-Dec-2003; DatasheetDocument: 11-Dec-2001; PackageDocument: 2-Aug-2001; PackageReference: CAPRD5-7X3; Publisher: Altium Limited; ComponentLink1Description: Manufacturer Link; ComponentLink1URL: http://www.vishay.com/; ComponentLink2Description: Datasheet; ComponentLink2URL: http://www.vishay.com/docs/22161/h.pdf; Value: 330pF
footprint CAPRD5-7X3 (Capacitor, Ceramic, Thru-Hole, Disc; Body 7 x 3 mm (LxW max) Pin Spacing 5 mm (typ))
simulation model CAP (Capacitor)
signal-integrity model Cap
pins: 1, 2

## HAZ332KBACF0K
designator C?
Ceramic High Voltage Disc Capacitor, Class 2: 3300pF 1kV K 2000; Note: See Datasheet for other lead types & tolerances; Value: 3.3nF; Published: 17-Dec-2003; DatasheetDocument: 11-Dec-2001; PackageDocument: 2-Aug-2001; PackageReference: CAPRD7.5-13X3; Publisher: Altium Limited; ComponentLink1Description: Manufacturer Link; ComponentLink1URL: http://www.vishay.com/; ComponentLink2Description: Datasheet; ComponentLink2URL: http://www.vishay.com/docs/22161/h.pdf
footprint CAPRD7.5-13X3 (Capacitor, Ceramic, Thru-Hole, Disc; Body 13 x 3 mm (LxW max) Pin Spacing 7.5 mm (typ))
simulation model CAP (Capacitor)
signal-integrity model Cap
pins: 1, 2

## HAZ332MBACF0K
designator C?
Ceramic High Voltage Disc Capacitor, Class 2: 3300pF 1kV K 2000; Note: See Datasheet for other lead types & tolerances; Value: 3.3nF; Published: 17-Dec-2003; DatasheetDocument: 11-Dec-2001; PackageDocument: 2-Aug-2001; PackageReference: CAPRD7.5-13X3; Publisher: Altium Limited; ComponentLink1Description: Manufacturer Link; ComponentLink1URL: http://www.vishay.com/; ComponentLink2Description: Datasheet; ComponentLink2URL: http://www.vishay.com/docs/22161/h.pdf
footprint CAPRD7.5-13X3 (Capacitor, Ceramic, Thru-Hole, Disc; Body 13 x 3 mm (LxW max) Pin Spacing 7.5 mm (typ))
simulation model CAP (Capacitor)
signal-integrity model Cap
pins: 1, 2

## HAZ470KBABF0K
designator C?
Ceramic High Voltage Disc Capacitor, Class 2: 47pF 1kV K 2000; Note: See Datasheet for other lead types & tolerances; Published: 17-Dec-2003; DatasheetDocument: 11-Dec-2001; PackageDocument: 2-Aug-2001; PackageReference: CAPRD5-7X3; Publisher: Altium Limited; ComponentLink1Description: Manufacturer Link; ComponentLink1URL: http://www.vishay.com/; ComponentLink2Description: Datasheet; ComponentLink2URL: http://www.vishay.com/docs/22161/h.pdf; Value: 47pF
footprint CAPRD5-7X3 (Capacitor, Ceramic, Thru-Hole, Disc; Body 7 x 3 mm (LxW max) Pin Spacing 5 mm (typ))
simulation model CAP (Capacitor)
signal-integrity model Cap
pins: 1, 2

## HAZ470MBABF0K
designator C?
Ceramic High Voltage Disc Capacitor, Class 2: 47pF 1kV K 2000; Note: See Datasheet for other lead types & tolerances; Published: 17-Dec-2003; DatasheetDocument: 11-Dec-2001; PackageDocument: 2-Aug-2001; PackageReference: CAPRD5-7X3; Publisher: Altium Limited; ComponentLink1Description: Manufacturer Link; ComponentLink1URL: http://www.vishay.com/; ComponentLink2Description: Datasheet; ComponentLink2URL: http://www.vishay.com/docs/22161/h.pdf; Value: 47pF
footprint CAPRD5-7X3 (Capacitor, Ceramic, Thru-Hole, Disc; Body 7 x 3 mm (LxW max) Pin Spacing 5 mm (typ))
simulation model CAP (Capacitor)
signal-integrity model Cap
pins: 1, 2

## HAZ471KBABF0K
designator C?
Ceramic High Voltage Disc Capacitor, Class 2: 470pF 1kV K 2000; Note: See Datasheet for other lead types & tolerances; Published: 17-Dec-2003; DatasheetDocument: 11-Dec-2001; PackageDocument: 2-Aug-2001; PackageReference: CAPRD5-7X3; Publisher: Altium Limited; ComponentLink1Description: Manufacturer Link; ComponentLink1URL: http://www.vishay.com/; ComponentLink2Description: Datasheet; ComponentLink2URL: http://www.vishay.com/docs/22161/h.pdf; Value: 470pF
footprint CAPRD5-7X3 (Capacitor, Ceramic, Thru-Hole, Disc; Body 7 x 3 mm (LxW max) Pin Spacing 5 mm (typ))
simulation model CAP (Capacitor)
signal-integrity model Cap
pins: 1, 2

## HAZ471MBABF0K
designator C?
Ceramic High Voltage Disc Capacitor, Class 2: 470pF 1kV K 2000; Note: See Datasheet for other lead types & tolerances; Published: 17-Dec-2003; DatasheetDocument: 11-Dec-2001; PackageDocument: 2-Aug-2001; PackageReference: CAPRD5-7X3; Publisher: Altium Limited; ComponentLink1Description: Manufacturer Link; ComponentLink1URL: http://www.vishay.com/; ComponentLink2Description: Datasheet; ComponentLink2URL: http://www.vishay.com/docs/22161/h.pdf; Value: 470pF
footprint CAPRD5-7X3 (Capacitor, Ceramic, Thru-Hole, Disc; Body 7 x 3 mm (LxW max) Pin Spacing 5 mm (typ))
simulation model CAP (Capacitor)
signal-integrity model Cap
pins: 1, 2

## HAZ472KBACF0K
designator C?
Ceramic High Voltage Disc Capacitor, Class 2: 4700pF 1kV K 2000; Note: See Datasheet for other lead types & tolerances; Value: 4.7nF; Published: 17-Dec-2003; DatasheetDocument: 11-Dec-2001; PackageDocument: 2-Aug-2001; PackageReference: CAPRD7.5-15X3A; Publisher: Altium Limited; ComponentLink1Description: Manufacturer Link; ComponentLink1URL: http://www.vishay.com/; ComponentLink2Description: Datasheet; ComponentLink2URL: http://www.vishay.com/docs/22161/h.pdf
footprint CAPRD7.5-15X3A (Capacitor, Ceramic, Thru-Hole, Disc; Body 15 x 3 mm (LxW max) Pin Spacing 7.5 mm (typ))
simulation model CAP (Capacitor)
signal-integrity model Cap
pins: 1, 2

## HAZ472MBACF0K
designator C?
Ceramic High Voltage Disc Capacitor, Class 2: 4700pF 1kV K 2000; Note: See Datasheet for other lead types & tolerances; Value: 4.7nF; Published: 17-Dec-2003; DatasheetDocument: 11-Dec-2001; PackageDocument: 2-Aug-2001; PackageReference: CAPRD7.5-15X3A; Publisher: Altium Limited; ComponentLink1Description: Manufacturer Link; ComponentLink1URL: http://www.vishay.com/; ComponentLink2Description: Datasheet; ComponentLink2URL: http://www.vishay.com/docs/22161/h.pdf
footprint CAPRD7.5-15X3A (Capacitor, Ceramic, Thru-Hole, Disc; Body 15 x 3 mm (LxW max) Pin Spacing 7.5 mm (typ))
simulation model CAP (Capacitor)
signal-integrity model Cap
pins: 1, 2

## HAZ560KBABF0K
designator C?
Ceramic High Voltage Disc Capacitor, Class 2: 56pF 1kV K 2000; Note: See Datasheet for other lead types & tolerances; Published: 17-Dec-2003; DatasheetDocument: 11-Dec-2001; PackageDocument: 2-Aug-2001; PackageReference: CAPRD5-7X3; Publisher: Altium Limited; ComponentLink1Description: Manufacturer Link; ComponentLink1URL: http://www.vishay.com/; ComponentLink2Description: Datasheet; ComponentLink2URL: http://www.vishay.com/docs/22161/h.pdf; Value: 56pF
footprint CAPRD5-7X3 (Capacitor, Ceramic, Thru-Hole, Disc; Body 7 x 3 mm (LxW max) Pin Spacing 5 mm (typ))
simulation model CAP (Capacitor)
signal-integrity model Cap
pins: 1, 2

## HAZ560MBABF0K
designator C?
Ceramic High Voltage Disc Capacitor, Class 2: 56pF 1kV K 2000; Note: See Datasheet for other lead types & tolerances; Published: 17-Dec-2003; DatasheetDocument: 11-Dec-2001; PackageDocument: 2-Aug-2001; PackageReference: CAPRD5-7X3; Publisher: Altium Limited; ComponentLink1Description: Manufacturer Link; ComponentLink1URL: http://www.vishay.com/; ComponentLink2Description: Datasheet; ComponentLink2URL: http://www.vishay.com/docs/22161/h.pdf; Value: 56pF
footprint CAPRD5-7X3 (Capacitor, Ceramic, Thru-Hole, Disc; Body 7 x 3 mm (LxW max) Pin Spacing 5 mm (typ))
simulation model CAP (Capacitor)
signal-integrity model Cap
pins: 1, 2

## HAZ680KBABF0K
designator C?
Ceramic High Voltage Disc Capacitor, Class 2: 68pF 1kV K 2000; Note: See Datasheet for other lead types & tolerances; Published: 17-Dec-2003; DatasheetDocument: 11-Dec-2001; PackageDocument: 2-Aug-2001; PackageReference: CAPRD5-7X3; Publisher: Altium Limited; ComponentLink1Description: Manufacturer Link; ComponentLink1URL: http://www.vishay.com/; ComponentLink2Description: Datasheet; ComponentLink2URL: http://www.vishay.com/docs/22161/h.pdf; Value: 68pF
footprint CAPRD5-7X3 (Capacitor, Ceramic, Thru-Hole, Disc; Body 7 x 3 mm (LxW max) Pin Spacing 5 mm (typ))
simulation model CAP (Capacitor)
signal-integrity model Cap
pins: 1, 2

## HAZ680MBABF0K
designator C?
Ceramic High Voltage Disc Capacitor, Class 2: 68pF 1kV K 2000; Note: See Datasheet for other lead types & tolerances; Published: 17-Dec-2003; DatasheetDocument: 11-Dec-2001; PackageDocument: 2-Aug-2001; PackageReference: CAPRD5-7X3; Publisher: Altium Limited; ComponentLink1Description: Manufacturer Link; ComponentLink1URL: http://www.vishay.com/; ComponentLink2Description: Datasheet; ComponentLink2URL: http://www.vishay.com/docs/22161/h.pdf; Value: 68pF
footprint CAPRD5-7X3 (Capacitor, Ceramic, Thru-Hole, Disc; Body 7 x 3 mm (LxW max) Pin Spacing 5 mm (typ))
simulation model CAP (Capacitor)
signal-integrity model Cap
pins: 1, 2

## HAZ681KBABF0K
designator C?
Ceramic High Voltage Disc Capacitor, Class 2: 680pF 1kV K 2000; Note: See Datasheet for other lead types & tolerances; Published: 17-Dec-2003; DatasheetDocument: 11-Dec-2001; PackageDocument: 2-Aug-2001; PackageReference: CAPRD5-7X3; Publisher: Altium Limited; ComponentLink1Description: Manufacturer Link; ComponentLink1URL: http://www.vishay.com/; ComponentLink2Description: Datasheet; ComponentLink2URL: http://www.vishay.com/docs/22161/h.pdf; Value: 680pF
footprint CAPRD5-7X3 (Capacitor, Ceramic, Thru-Hole, Disc; Body 7 x 3 mm (LxW max) Pin Spacing 5 mm (typ))
simulation model CAP (Capacitor)
signal-integrity model Cap
pins: 1, 2